# EAGLE library part LTC2499 (library CougsInSpace-IC-Conversion)
LTC2499 24b ADC with 8-differential/16-single ended channels. I²C interface LTC2499 <https://github.com/CougsInSpace/Resources/blob/master/SupplierDocuments/Linear/LTC2499_I2CADC-8DifferentialInputs.pdf>
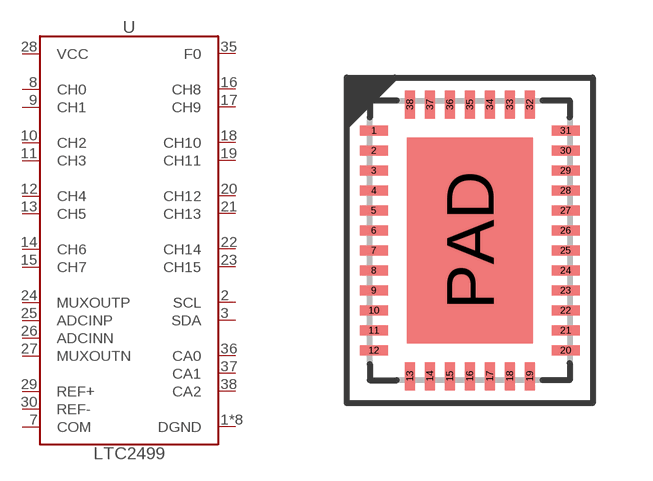
[diagram p1: symbol with the pads of QFN-38-5070; footprint QFN-38-5070]

Designator prefix U

## LTC2499 (SKU: 27-0002; VALUE: LTC2499)  [QFN-38-5070]
1  DGND  pwr
2  SCL
3  SDA
4  DGND  pwr
6  DGND  pwr
7  COM  in
8  CH0  pas
9  CH1  pas
10  CH2  pas
11  CH3  pas
12  CH4  pas
13  CH5  pas
14  CH6  pas
15  CH7  pas
16  CH8  pas
17  CH9  pas
18  CH10  pas
19  CH11  pas
20  CH12  pas
21  CH13  pas
22  CH14  pas
23  CH15  pas
24  MUXOUTP  out
25  ADCINP  in
26  ADCINN  in
27  MUXOUTN  out
28  VCC  pwr
29  REF+  in
30  REF-  in
31  DGND  pwr
32  DGND  pwr
33  DGND  pwr
34  DGND  pwr
35  F0  pas
36  CA0  pas
37  CA1  pas
38  CA2  pas
PAD  DGND  pwr

## Footprint QFN-38-5070 (pad centres in mm)
Quad Flat No-Leads (QFN) - 38 pins - 5.0 x 7.0 mm
smd 0.7 x 0.25: 1 -2.4,2.75; 2 -2.4,2.25; 3 -2.4,1.75; 4 -2.4,1.25; 5 -2.4,0.75; 6 -2.4,0.25; 7 -2.4,-0.25; 8 -2.4,-0.75; 9 -2.4,-1.25; 10 -2.4,-1.75; 11 -2.4,-2.25; 12 -2.4,-2.75; 20 2.4,-2.75; 21 2.4,-2.25; 22 2.4,-1.75; 23 2.4,-1.25; 24 2.4,-0.75; 25 2.4,-0.25; 26 2.4,0.25; 27 2.4,0.75; 28 2.4,1.25; 29 2.4,1.75; 30 2.4,2.25; 31 2.4,2.75
smd 0.25 x 0.7: 13 -1.5,-3.4; 14 -1,-3.4; 15 -0.5,-3.4; 16 0,-3.4; 17 0.5,-3.4; 18 1,-3.4; 19 1.5,-3.4; 32 1.5,3.4; 33 1,3.4; 34 0.5,3.4; 35 0,3.4; 36 -0.5,3.4; 37 -1,3.4; 38 -1.5,3.4
smd 3.15 x 5.15: PAD 0,0